# EAGLE library part GPRS_A6_MINI (library GPRS A6 mini)
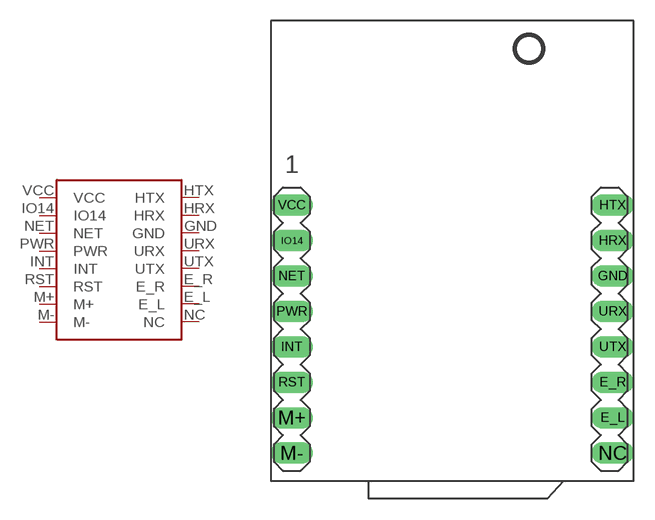
[diagram p0: symbol with the pads of A6_MINI; footprint A6_MINI]

Designator prefix -

## GPRS_A6_MINI  [A6_MINI]
E_L  E_L
E_R  E_R
GND  GND
HRX  HRX
HTX  HTX
INT  INT
IO14  IO14
M+  M+
M-  M-
NC  NC
NET  NET
PWR  PWR
RST  RST
URX  URX
UTX  UTX
VCC  VCC

## Footprint A6_MINI (pad centres in mm)
drill 1.016 long: E_L 25,4.54; E_R 25,7.08; GND 25,14.7; HRX 25,17.24; HTX 25,19.78; INT 2,9.62; IO14 2,17.24; M+ 2,4.54; M- 2,2; NC 25,2; NET 2,14.7; PWR 2,12.16; RST 2,7.08; URX 25,12.16; UTX 25,9.62; VCC 2,19.78